# EAGLE library part INPUTS_RIGHT (library harrison)
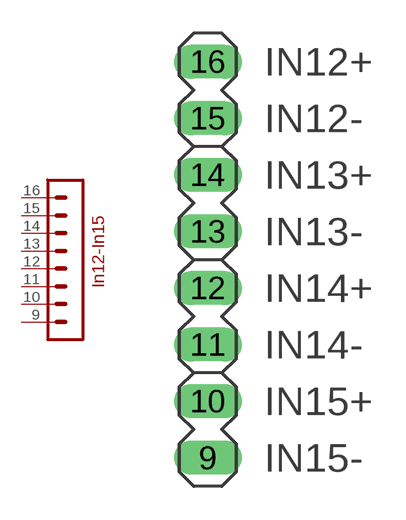
[diagram p22: symbol with the pads of INPUTS_RIGHT; footprint INPUTS_RIGHT]

Designator prefix -

## INPUTS_RIGHT  [INPUTS_RIGHT]
9  P$8  pas
10  P$7  pas
11  P$6  pas
12  P$5  pas
13  P$4  pas
14  P$3  pas
15  P$2  pas
16  P$1  pas

## Footprint INPUTS_RIGHT (pad centres in mm)
drill 1.016 long: 9 0,-6.985; 10 0,-4.445; 11 0,-1.905; 12 0,0.635; 13 0,3.175; 14 0,5.715; 15 0,8.255; 16 0,10.795